# Altium schematic symbol library CON_1X4.Schlib: 1 symbol
Pins are listed as number, name and electrical type; pins without a type are passive.

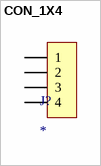
[diagram p0: symbol CON_1X4]

## CON_1X4
designator J?
pins: 1, 2, 3, 4